# EAGLE library part MINI_MATE_SAMTEC_2X4 (library MDB_HOMEBAK)
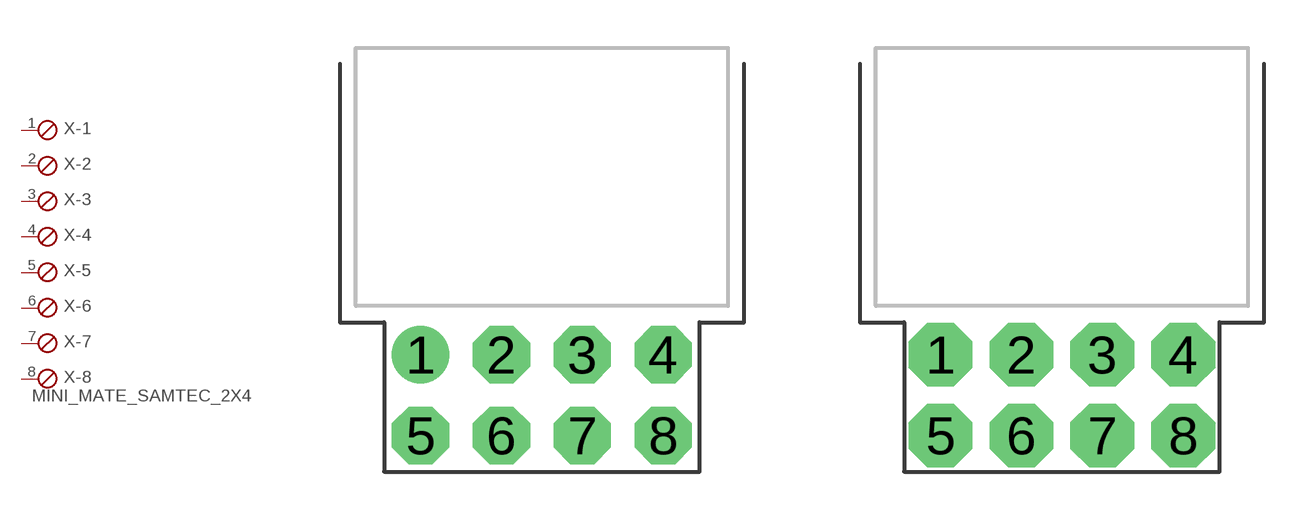
[diagram p49: symbol with the pads of MINI_MATE_SAMTEC_2X4_90°; footprints MINI_MATE_SAMTEC_2X4_90°, MINI_MATE_SAMTEC_2X4_90°_BIGPAD]

Designator prefix X; gates -1=SKB -2=SKB -3=SKB -4=SKB -5=SKB -6=SKB -7=SKB -8=SKBV

## MINI_MATE_SAMTEC_2X4S  [MINI_MATE_SAMTEC_2X4_90°]
1  -1:1  pas
2  -2:1  pas
3  -3:1  pas
4  -4:1  pas
5  -5:1  pas
6  -6:1  pas
7  -7:1  pas
8  -8:1  pas

## MINI_MATE_SAMTEC_2X4B  [MINI_MATE_SAMTEC_2X4_90°_BIGPAD]
Pads as for MINI_MATE_SAMTEC_2X4_90°

## Footprint MINI_MATE_SAMTEC_2X4_90° (pad centres in mm)
drill 1.2 pad 1.778: 1 -3.81,0
drill 1.2 pad 1.778 octagon: 2 -1.27,0; 3 1.27,0; 4 3.81,0; 5 -3.81,-2.54; 6 -1.27,-2.54; 7 1.27,-2.54; 8 3.81,-2.54

## Footprint MINI_MATE_SAMTEC_2X4_90°_BIGPAD (pad centres in mm)
drill 1.1 pad 2 octagon: 1 -3.81,0; 2 -1.27,0; 3 1.27,0; 4 3.81,0; 5 -3.81,-2.54; 6 -1.27,-2.54; 7 1.27,-2.54; 8 3.81,-2.54